# EAGLE library part ATTINY13A (library atmel-avr)
TINY MICROCONTROLLER 1K Bytes ISP Flash
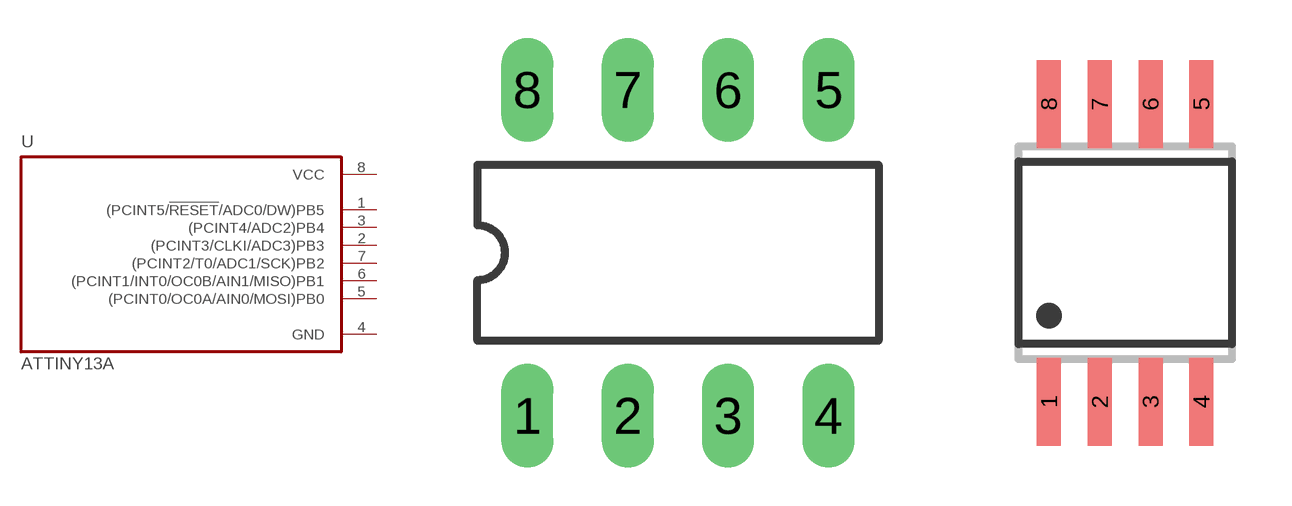
[diagram p19: symbol with the pads of PDIP-8P3; footprints PDIP-8P3, SO08-8S2]

Designator prefix U

## ATTINY13A-8P3  [PDIP-8P3]
1  (PCINT5/!RESET!/ADC0/DW)PB5
2  (PCINT3/CLKI/ADC3)PB3
3  (PCINT4/ADC2)PB4
4  GND  pwr
5  (PCINT0/OC0A/AIN0/MOSI)PB0
6  (PCINT1/INT0/OC0B/AIN1/MISO)PB1
7  (PCINT2/T0/ADC1/SCK)PB2
8  VCC  pwr

## ATTINY13A-8S2  [SO08-8S2]
Pads as for PDIP-8P3

## ATTINY13A-8S1  [SO08-8S1]
Pads as for PDIP-8P3

## ATTINY13A-20M1  [QFN20M1]
1  (PCINT5/!RESET!/ADC0/DW)PB5
2  (PCINT3/CLKI/ADC3)PB3
5  (PCINT4/ADC2)PB4
8  GND  pwr
11  (PCINT0/OC0A/AIN0/MOSI)PB0
12  (PCINT1/INT0/OC0B/AIN1/MISO)PB1
14  (PCINT2/T0/ADC1/SCK)PB2
15  VCC  pwr

## ATTINY13A-10M1  [DFN10M1]
1  (PCINT5/!RESET!/ADC0/DW)PB5
2  (PCINT3/CLKI/ADC3)PB3
4  (PCINT4/ADC2)PB4
5  GND  pwr
6  (PCINT0/OC0A/AIN0/MOSI)PB0
7  (PCINT1/INT0/OC0B/AIN1/MISO)PB1
9  (PCINT2/T0/ADC1/SCK)PB2
10  VCC  pwr

## Footprint PDIP-8P3 (pad centres in mm)
In-line Package (PDIP) 8-lead, 0.300" Wide Body, Plastic Dual
drill 0.813 long: 1 -3.81,-4.128; 2 -1.27,-4.128; 3 1.27,-4.128; 4 3.81,-4.128; 5 3.81,4.128; 6 1.27,4.128; 7 -1.27,4.128; 8 -3.81,4.128

## Footprint SO08-8S2 (pad centres in mm)
Plastic Small Outline Package (EIAJ) 8S2, 8-lead, Body 5.3mm (0.208")
smd 0.6 x 2.2: 1 -1.905,-3.725; 2 -0.635,-3.725; 3 0.635,-3.725; 4 1.905,-3.725; 5 1.905,3.725; 6 0.635,3.725; 7 -0.635,3.725; 8 -1.905,3.725

## Footprint SO08-8S1 (pad centres in mm)
Plastic Gull Wing Small Outline (JEDEC SOIC) 8S1, 8-lead, Body 3.81mm (0.150")
smd 0.6 x 2.2: 1 -1.905,-2.6; 2 -0.635,-2.6; 3 0.635,-2.6; 4 1.905,-2.6; 5 1.905,2.6; 6 0.635,2.6; 7 -0.635,2.6; 8 -1.905,2.6

## Footprint QFN20M1 (pad centres in mm)
Quad Flat NoLead Package M1 (QFN) 20-pad, 4 x 4 x 0.8 mm Body, Pitch 0.50 mm, 2.6 mm Exposed Pad
smd 0.75 x 0.28: 1 -2,1; 2 -2,0.5; 3 -2,0; 4 -2,-0.5; 5 -2,-1; 11 2,-1; 12 2,-0.5; 13 2,0; 14 2,0.5; 15 2,1
smd 0.28 x 0.75: 6 -1,-2; 7 -0.5,-2; 8 0,-2; 9 0.5,-2; 10 1,-2; 16 1,2; 17 0.5,2; 18 0,2; 19 -0.5,2; 20 -1,2

## Footprint DFN10M1 (pad centres in mm)
Micro Lead Frame Package 10M1 10M1, 10-pad, 3 x 3 x 1.0 mm Body, Lead Pitch 0.50 mm, 1.64 x 2.60 mm Exposed Pad
smd 0.265 x 0.8: 1 -1,-1.5; 2 -0.5,-1.5; 3 0,-1.5; 4 0.5,-1.5; 5 1,-1.5; 6 1,1.5; 7 0.5,1.5; 8 0,1.5; 9 -0.5,1.5; 10 -1,1.5